# Altium footprint library CONECTER.PcbLib: 145 footprints (part 6 of 10)
Each footprint in its own frame and in the unit in brackets; x right, y up, seen from the top. Pads: shape width x height; smd on the part's side, far side on the other; paste and mask are expansions set on the pad; w line width, h text height; cw(c..) or ccw(c..) is an arc to the next point about the centre after c.
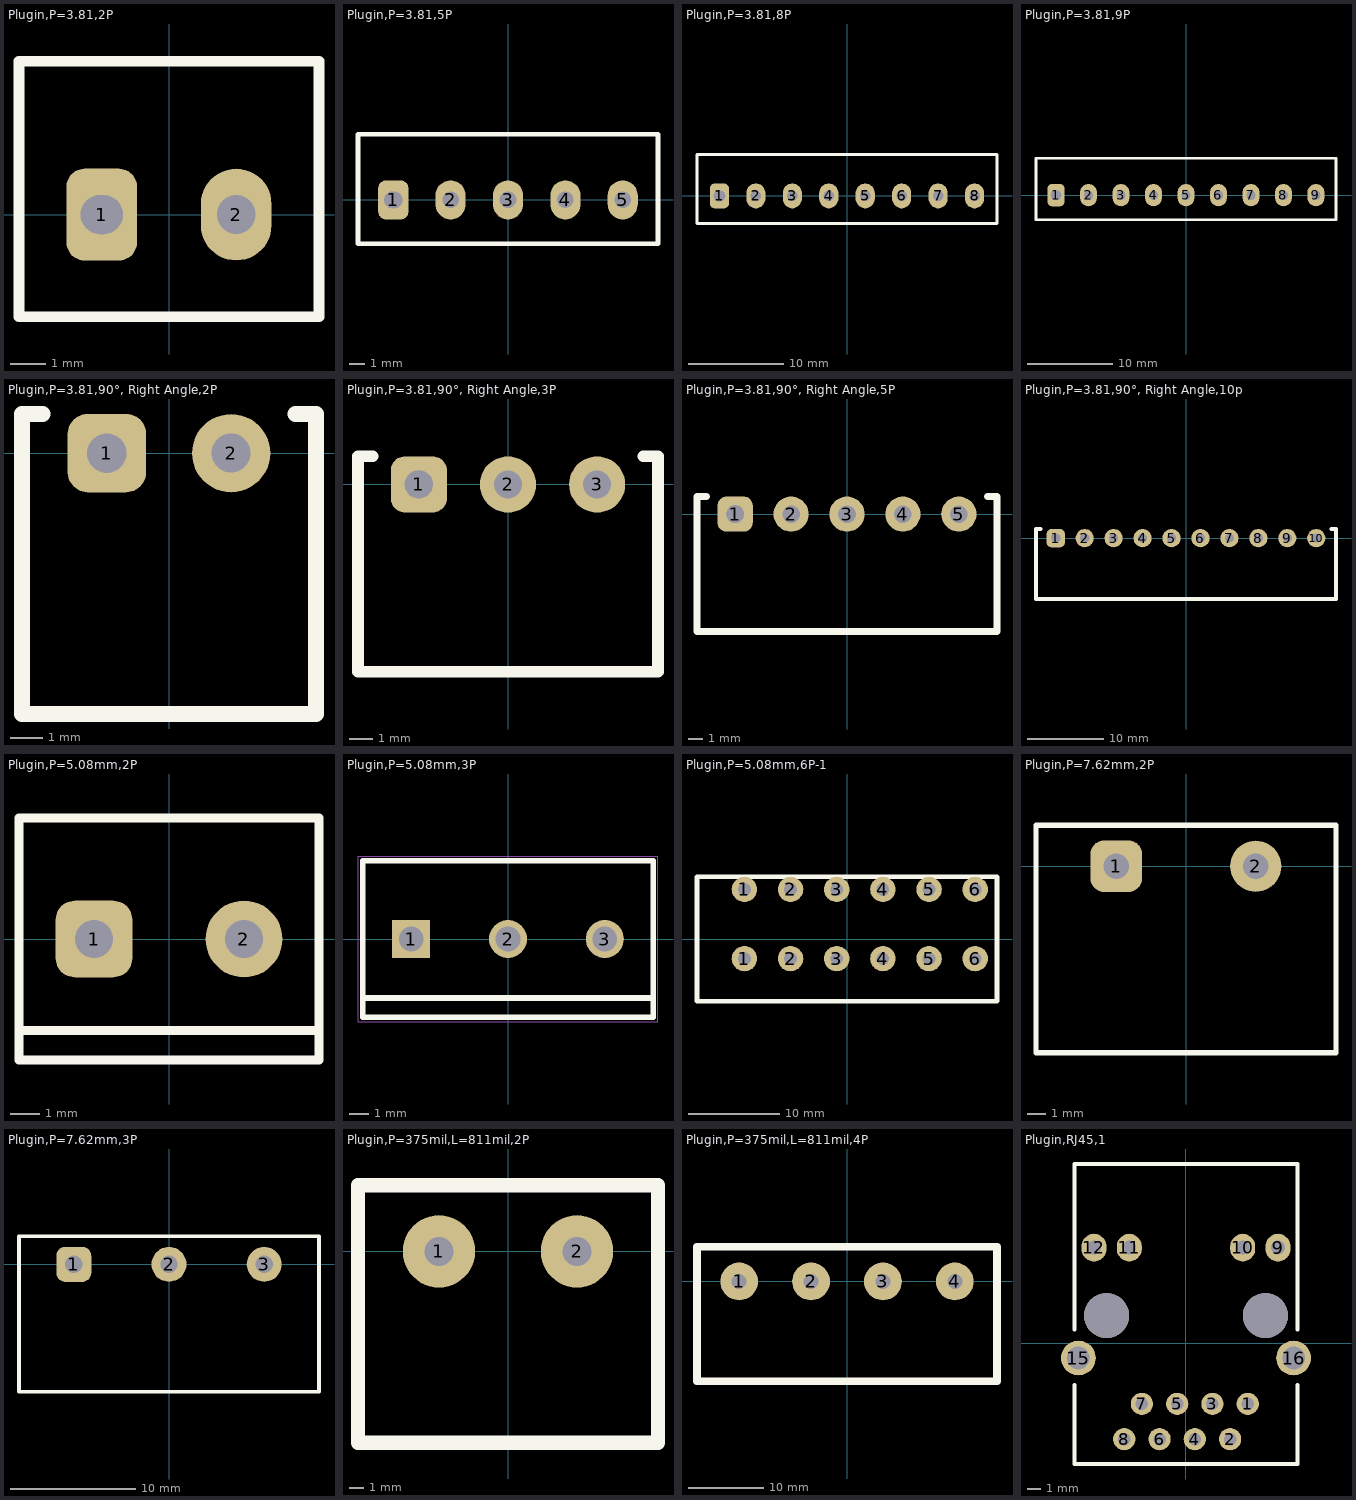
[diagram p5: the footprints below, top view; thin cyan lines are the x and y axes]

## Plugin,P=3.81,2P [mm]
pads (2):
  rrect50% 2x2.6 hole 1.1 slot 1.2 at 0 deg mask+0.2: 1(-1.905,0)
  oval 2x2.6 hole 1.1 mask+0.2: 2(1.905,0)
Top Overlay:
  lines w0.3: -4.25,-2.9 4.25,-2.9 4.25,4.35 -4.25,4.35 -4.25,-2.9
3D body "15EDGVC-3.81-02P-14-00AH.STEP": height 9.2, standoff -3.4, extent -4.205,-2.85 4.205,4.35

## Plugin,P=3.81,5P [mm]
pads (5):
  rrect50% 2x2.6 hole 1.1 slot 1.2 at 0 deg mask+0.2: 1(-7.62,0)
  oval 2x2.6 hole 1.1 mask+0.2: 2(-3.81,0) 3(0,0) 4(3.81,0) 5(7.62,0)
Top Overlay:
  lines w0.3: -9.965,-2.9 9.965,-2.9 9.965,4.35 -9.965,4.35 -9.965,-2.9
3D body "15EDGVC-3.81-05P-14-00AH.STEP": height 9.2, standoff -3.4, extent -9.92,-2.85 9.92,4.35

## Plugin,P=3.81,8P [mm]
pads (8):
  rrect50% 2x2.6 hole 1.1 slot 1.2 at 0 deg mask+0.2: 1(-13.335,0)
  oval 2x2.6 hole 1.1 mask+0.2: 2(-9.525,0) 3(-5.715,0) 4(-1.905,0) 5(1.905,0) 6(5.715,0) 7(9.525,0) 8(13.335,0)
Top Overlay:
  lines w0.3: -15.68,-2.9 -15.68,4.35 15.68,4.35 15.68,-2.9 -15.68,-2.9
3D body "15EDGVC-3.81-08P-14-00AH.STEP": height 9.2, standoff -3.4, extent -15.635,-2.85 15.635,4.35

## Plugin,P=3.81,9P [mm]
pads (9):
  rrect50% 2x2.6 hole 1.1 slot 1.2 at 0 deg mask+0.2: 1(-15.24,0)
  oval 2x2.6 hole 1.1 mask+0.2: 2(-11.43,0) 3(-7.62,0) 4(-3.81,0) 5(0,0) 6(3.81,0) 7(7.62,0) 8(11.43,0) 9(15.24,0)
Top Overlay:
  lines w0.3: -17.585,-2.9 -17.585,4.35 17.585,4.35 17.585,-2.9 -17.585,-2.9
3D body "15EDGVC-3.81-09P-14-00AH.STEP": height 9.2, standoff -3.4, extent -17.54,-2.9 17.54,4.3

## Plugin,P=3.81,90°, Right Angle,2P [mm]
pads (2):
  rrect50% 2.4x2.4 hole 1.2 mask+0.2: 1(-1.905,0)
  round 2.4 hole 1.2 mask+0.2: 2(1.905,0)
Top Overlay:
  lines w0.5: -3.88,1.2 -4.505,1.2 -4.505,-8 4.505,-8 4.505,1.2 3.88,1.2
3D body "15EDGRC-3.81-02P-14-00AH.STEP": height 7.2, standoff -3.4, extent -4.21,-8 4.2,1.2

## Plugin,P=3.81,90°, Right Angle,3P [mm]
pads (3):
  rrect50% 2.4x2.4 hole 1.2 mask+0.2: 1(-3.81,0)
  round 2.4 hole 1.2 mask+0.2: 2(0,0) 3(3.81,0)
Top Overlay:
  lines w0.5: -5.785,1.2 -6.41,1.2 -6.41,-8 6.41,-8 6.41,1.2 5.785,1.2
3D body "15EDGRC-3.81-03P-14-00AH.STEP": height 7.2, standoff -3.4, extent -5.98,-8 6.24,1.2

## Plugin,P=3.81,90°, Right Angle,5P [mm]
pads (5):
  rrect50% 2.4x2.4 hole 1.2 mask+0.2: 1(-7.62,0)
  round 2.4 hole 1.2 mask+0.2: 2(-3.81,0) 3(0,0) 4(3.81,0) 5(7.62,0)
Top Overlay:
  lines w0.5: -9.595,1.2 -10.22,1.2 -10.22,-8 10.22,-8 10.22,1.2 9.595,1.2
3D body "15EDGRC-3.81-05P-14-00AH.STEP": height 7.2, standoff -3.4, extent -9.92,-8 9.92,1.2

## Plugin,P=3.81,90°, Right Angle,10p [mm]
pads (10):
  rrect50% 2.4x2.4 hole 1.2 mask+0.2: 1(-17.145,0)
  round 2.4 hole 1.2 mask+0.2: 2(-13.335,0) 3(-9.525,0) 4(-5.715,0) 5(-1.905,0) 6(1.905,0) 7(5.715,0) 8(9.525,0) 9(13.335,0) 10(17.145,0)
Top Overlay:
  lines w0.5: -19.12,1.2 -19.745,1.2 -19.745,-8 19.745,-8 19.745,1.2 19.12,1.2
3D body "15EDGRC-3.81-10P-14-00AH.STEP": height 7.2, standoff -3.4, extent -19.39,-8 19.5,1.2

## Plugin,P=5.08mm,2P [mm]
pads (2):
  rrect50% 2.6x2.6 hole 1.3: 1(-2.54,0)
  round 2.6 hole 1.3: 2(2.54,0)
Top Overlay:
  lines w0.3: -5.08,-3.1 5.08,-3.1 ; -5.08,-3.1 -5.08,4.1 5.08,4.1 5.08,-3.1 ; -5.08,-3.1 -5.08,-4.1 5.08,-4.1 5.08,-3.1
3D body "step_temp.STEP": height 10, standoff -3.5, extent -5.68,-4.1 5.08,4.1

## Plugin,P=5.08mm,3P [mm]
pads (3):
  rect 2x2 hole 1.3: 1(-5.08,0)
  round 2 hole 1.3: 2(0,0) 3(5.08,0)
Top Overlay:
  lines w0.3: -7.6,-3.1 7.55,-3.1 ; -7.62,-4.1 7.62,-4.1 7.62,4.1 -7.62,4.1 -7.62,-4.1
3D:
  lines w0.127: -7.62,-4.1 -7.62,4.1 7.62,4.1 7.62,-4.1 -7.62,-4.1
Mechanical 15:
  lines w0.05: -7.87,-4.35 7.87,-4.35 7.87,4.35 -7.87,4.35 -7.87,-4.35
3D body "282837-3.step": height 10.25, standoff -3.25, extent -8.22,-4 7.62,4.2

## Plugin,P=5.08mm,6P-1 [mm]
pads (12):
  round 2.8 hole 1.4: 1(-11.29,-2.15) 1(-11.29,5.47) 2(-6.21,-2.15) 2(-6.21,5.47) 3(-1.13,-2.15) 3(-1.13,5.47) 4(3.95,-2.15) 4(3.95,5.47) 5(9.03,-2.15) 5(9.03,5.47) 6(14.11,-2.15) 6(14.11,5.47)
Top Overlay:
  lines w0.5: 16.453,-6.85 -16.51,-6.85 -16.51,6.85 16.51,6.85 16.51,-6.85

## Plugin,P=7.62mm,2P [mm]
pads (2):
  rrect50% 2.8x2.8 hole 1.4: 1(-3.81,0)
  round 2.8 hole 1.4: 2(3.81,0)
Top Overlay:
  lines w0.3: -8.195,-10.2 8.195,-10.2 8.195,2.25 -8.195,2.25 -8.195,-10.2
3D body "Terminal Block - 7.62mm - 2 Pin.stp": height 12.22, standoff -5.08, extent -8.09,-9.99 8.979,2.024

## Plugin,P=7.62mm,3P [mm]
pads (3):
  rrect50% 2.8x2.8 hole 1.4: 1(-7.62,0)
  round 2.8 hole 1.4: 2(0,0) 3(7.62,0)
Top Overlay:
  lines w0.3: -12.005,-10.2 12.005,-10.2 12.005,2.25 -12.005,2.25 -12.005,-10.2
3D body "Terminal Block - 7.62mm - 3 Pin.stp": height 12.22, standoff -5.08, extent -11.824,-9.98 12.713,2.034

## Plugin,P=375mil,L=811mil,2P [mm]
pads (2):
  round 5 hole 2 mask+2: 1(-4.763,0) 2(4.763,0)
Top Overlay:
  lines w1: -10.351,-13.208 10.351,-13.208 10.351,4.572 -10.351,4.572 -10.351,-13.208
3D body "c-4-1437652-6-b-3d.stp": height 15.86, standoff -5.09, extent -10.3,-13.208 10.3,4.572

## Plugin,P=375mil,L=811mil,4P [mm]
pads (4):
  round 5 hole 2 mask+2: 1(-14.287,0) 2(-4.763,0) 3(4.763,0) 4(14.287,0)
Top Overlay:
  lines w1: -19.875,-13.208 19.875,-13.208 19.875,4.572 -19.875,4.572 -19.875,-13.208
3D body "c-6-1437652-7-p-3d.stp": height 15.88, standoff -5.08, extent -19.825,-13.208 19.825,4.572

## Plugin,RJ45,1 [mm]
pads (16):
  round 1.6 hole 0.9: 1(4.445,-4.355) 2(3.175,-6.895) 3(1.905,-4.355) 4(0.635,-6.895) 5(-0.635,-4.355) 6(-1.905,-6.895) 7(-3.175,-4.355) 8(-4.445,-6.895)
  oval 1.8x2 hole 1: 9(6.625,6.895) 10(4.085,6.895) 11(-4.085,6.895) 12(-6.625,6.895)
  round 2.5 hole 1.63: 15(-7.745,-1.055) 16(7.745,-1.055)
  round 3.25 hole 3.25 unplated: ""(-5.715,1.995) ""(5.715,1.995)
Top Overlay:
  lines w0.3: -8.02,-8.655 -8.02,-3.255 ; -8.02,-3 -8.02,-8.685 8.02,-8.685 8.02,-3 ; -8.02,0.995 -8.02,12.915 ; -8.02,1 -8.02,12.915 ; 8.02,-8.655 8.02,-3.255 ; 8.02,1 8.02,12.915 ; 8.02,1.245 8.02,12.915 ; -8.02,12.915 8.02,12.915
3D body "HR911105A.stp": height 13.97, standoff -2.53, extent -8.006,-8.578 7.874,12.822